# EAGLE library part 16-SSOP-TO-DIP (library Orlando)
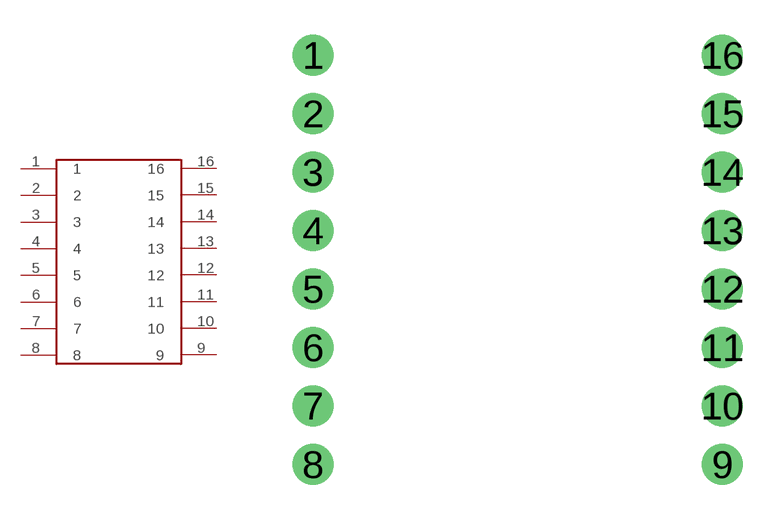
[diagram p15: symbol with the pads of 16-SSOP-TO-DIP; footprint 16-SSOP-TO-DIP]

Designator prefix -

## 16-SSOP-TO-DIP  [16-SSOP-TO-DIP]
1  1
2  2
3  3
4  4
5  5
6  6
7  7
8  8
9  9
10  10
11  11
12  12
13  13
14  14
15  15
16  16

## Footprint 16-SSOP-TO-DIP (pad centres in mm)
drill 1.2 pad 1.778: 1 -10.16,10.16; 2 -10.16,7.62; 3 -10.16,5.08; 4 -10.16,2.54; 5 -10.16,0; 6 -10.16,-2.54; 7 -10.16,-5.08; 8 -10.16,-7.62; 9 7.62,-7.62; 10 7.62,-5.08; 11 7.62,-2.54; 12 7.62,0; 13 7.62,2.54; 14 7.62,5.08; 15 7.62,7.62; 16 7.62,10.16